# Altium schematic symbol library Schlib1.SchLib: 18 symbols
Pins are listed as number, name and electrical type; pins without a type are passive.

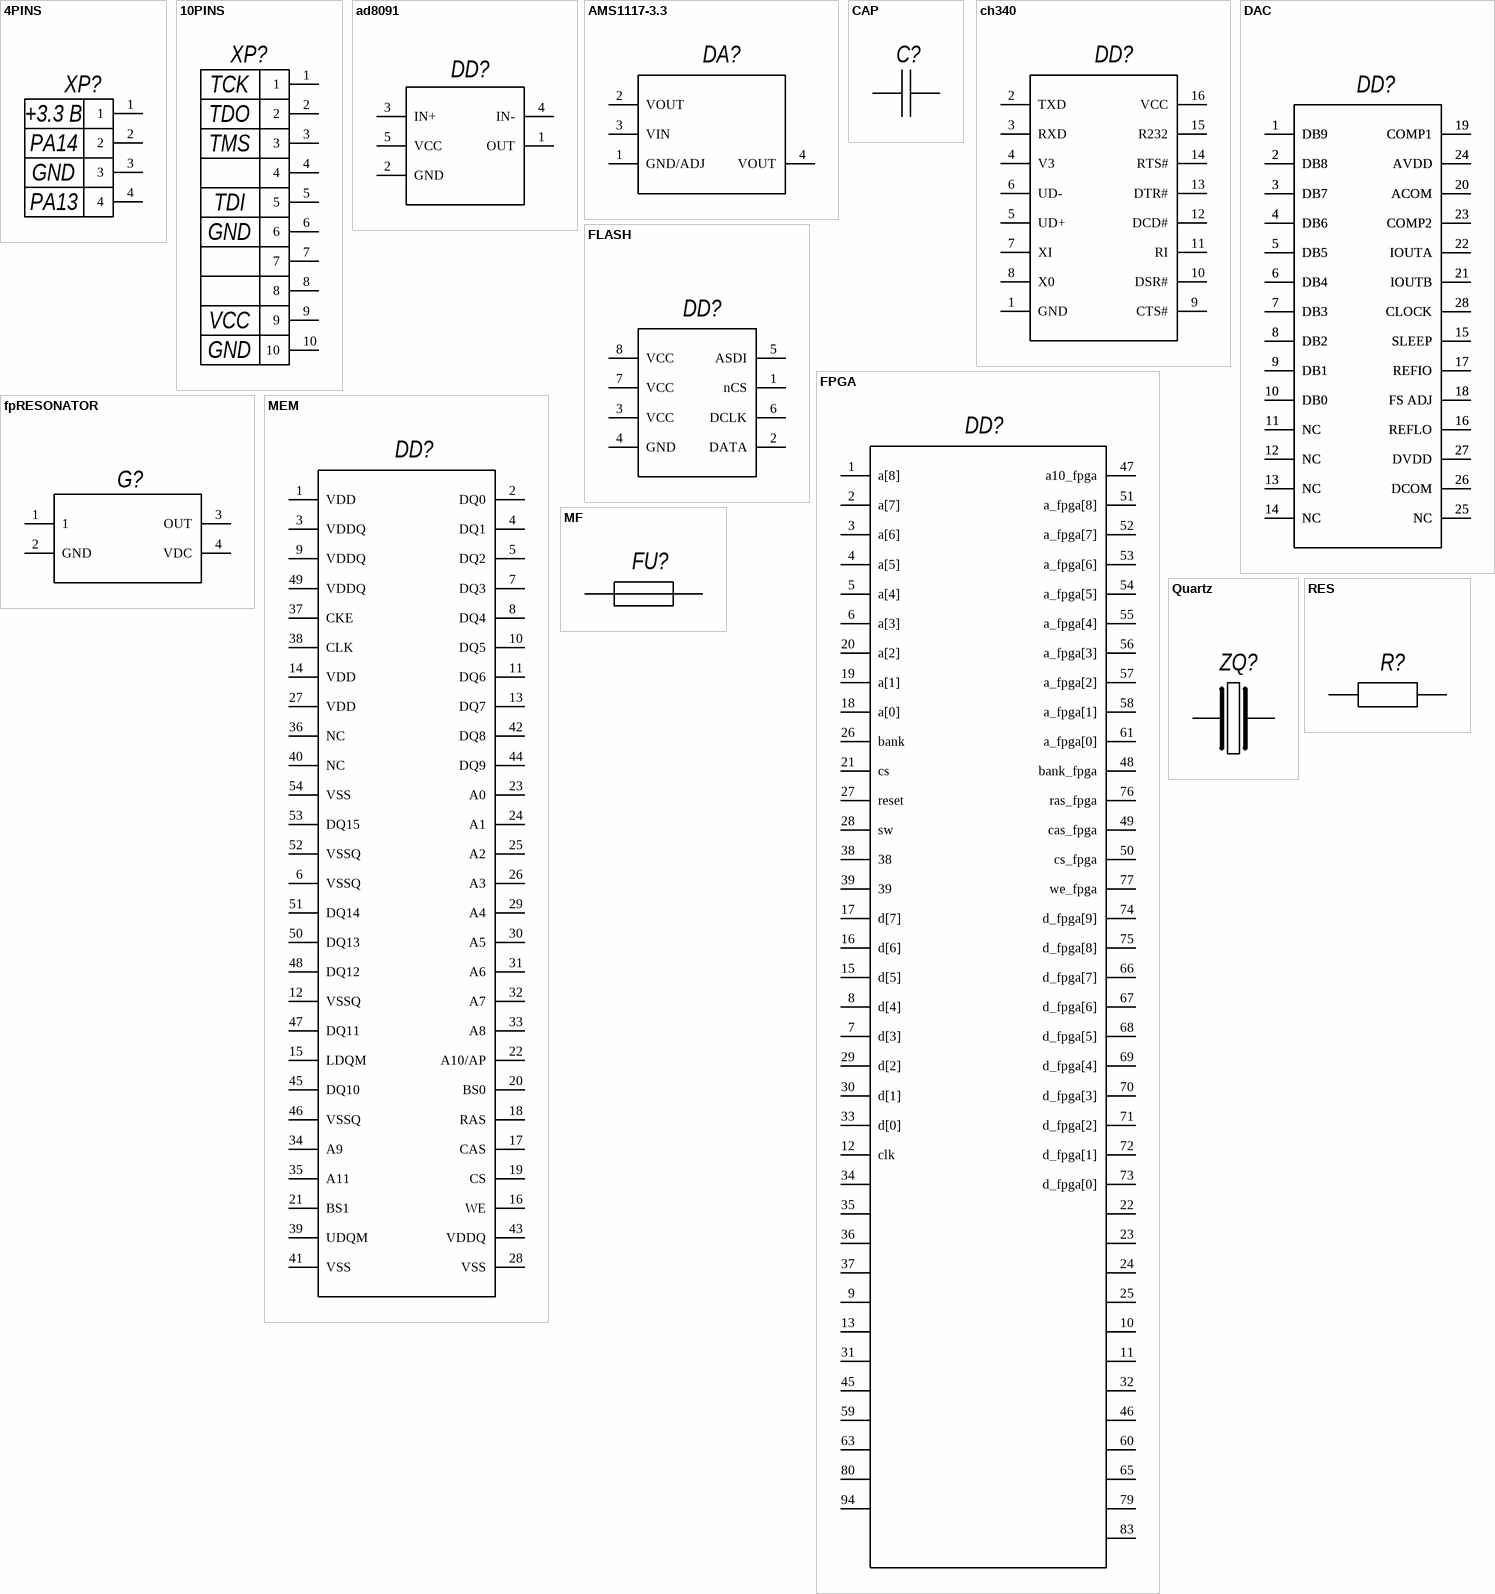
[diagram p0: symbols 4PINS to RES]

## 4PINS
designator XP?, comment Обозначение при заказе  (value not drawn)
Описание свойств компонента; Model: PLS-4 (DS-1021-1x4); Component: Вилка штыревая 4PIN; Link: https://www.chipdip.ru/product/pls-4; ComponentLink1Description: New link; ComponentLink1URL: https://www.chipdip.ru/product/pls-4
footprint 4PIN
pins: 1 "Информационный вход Х6", 2 "Информационный вход Х6", 3 "Информационный вход Х6", 4 "Информационный вход Х6"
text: +3.3 В; PA14; GND; PA13

## 10PINS
designator XP?, comment Обозначение при заказе  (value not drawn)
Описание свойств компонента; Model: PLD-10 (DS1021-2x5); Component: Вилка штыревая 10PIN; Link: https://www.chipdip.ru/product/pld-10; ComponentLink1Description: New link; ComponentLink1URL: https://www.chipdip.ru/product/pld-10
footprint PINS
pins: 1 "Информационный вход Х6", 2 "Информационный вход Х6", 3 "Информационный вход Х6", 4 "Информационный вход Х6", 5 "Информационный вход Х6", 6 "Информационный вход Х6", 7 "Информационный вход Х6", 8 "Информационный вход Х6", 9 "Информационный вход Х6", 10 "Информационный вход Х6"
text: TCK; TDO; TMS; TDI; GND; VCC

## ad8091
designator DD?, comment AD8091  (value not drawn)
SOT-23-5
footprint SOT95P245X110-5N (SOT23, 5-Leads, Body 2,90x2,45mm, Pitch 0,95mm, IPC Medium Density)
pins: 1 OUT, 2 GND, 3 IN+, 4 IN-, 5 VCC

## AMS1117-3.3
designator DA?, comment Обозначение при заказе  (value not drawn)
Описание свойств компонента; Model: AMS1117-3.3; Component: Стабилизатор; Link: https://www.chipdip.ru/product/ams1117-3.3; ComponentLink1Description: New link; ComponentLink1URL: https://www.chipdip.ru/product/ams1117-3.3
footprint AMS1117-3.3 GENERATED (SOT223, 4-Leads, Body 6,50x7,00mm (avg), Pitch 2,29mm, IPC Medium Density)
pins: 1 GND/ADJ "Информационный вход Х6", 2 VOUT "Информационный вход Х6", 3 VIN "Информационный вход Х6", 4 VOUT "Информационный вход Х6"

## CAP
designator C?, comment Обозначение при заказе  (value not drawn)
Описание свойств компонента; Component: Capacitor; Model: ?; Link: ?
footprint CAP 0603_1608 (Chip Capacitor, 2-Leads, Body 1.60x0.80mm, IPC Medium Density)
pins: 1 "Информационный вход Х6", 2 "Информационный вход Х6"

## ch340
designator DD?, comment Обозначение при заказе  (value not drawn)
Описание свойств компонента; Component: UART INTERFACE; Model: CH340G; Link: https://cdn.sparkfun.com/datasheets/Dev/Arduino/Other/CH340DS1.PDF; ComponentLink1Description: New link; ComponentLink1URL: https://cdn.sparkfun.com/datasheets/Dev/Arduino/Other/CH340DS1.PDF
footprint CH340G GENERATED
pins: 1 GND "Информационный вход Х6", 2 TXD "Информационный вход Х6", 3 RXD "Информационный вход Х6", 4 V3 "Информационный вход Х6", 5 UD+ "Информационный вход Х6", 6 UD- "Информационный вход Х6", 7 XI "Информационный вход Х6", 8 X0 "Информационный вход Х6", 9 CTS# "Информационный вход Х6", 10 DSR# "Информационный вход Х6", 11 RI "Информационный вход Х6", 12 DCD# "Информационный вход Х6", 13 DTR# "Информационный вход Х6", 14 RTS# "Информационный вход Х6", 15 R232 "Информационный вход Х6", 16 VCC "Информационный вход Х6"

## DAC
designator DD?, comment Обозначение при заказе  (value not drawn)
Описание свойств компонента; Component: DAC; Model: AD9760ARUZ50; Link: https://www.chipdip.ru/product/ad9760aruz50; ComponentLink1Description: New link; ComponentLink1URL: https://www.chipdip.ru/product/ad9760aruz50
footprint DAC (TSOP, 28-Leads, Body 9,70x4,40mm, Pitch 0,65mm, IPC Medium Density)
pins: 1 DB9, 1 DB9, 2 DB8, 2 DB8, 3 DB7, 3 DB7, 4 DB6, 4 DB6, 5 DB5, 5 DB5, 6 DB4, 6 DB4, 7 DB3, 7 DB3, 8 DB2, 8 DB2, 9 DB1, 9 DB1, 10 DB0, 10 DB0, 11 NC, 11 NC, 12 NC, 12 NC, 13 NC, 13 NC, 14 NC, 14 NC, 15 SLEEP, 15 SLEEP, 16 REFLO, 16 REFLO, 17 REFIO, 17 REFIO, 18 FS ADJ, 18 FS ADJ, 19 COMP1, 19 COMP1, 20 ACOM, 20 ACOM, 21 IOUTB, 21 IOUTB, 22 IOUTA, 22 IOUTA, 23 COMP2, 23 COMP2, 24 AVDD, 24 AVDD, 25 NC, 25 NC, 26 DCOM, 26 DCOM, 27 DVDD, 27 DVDD, 28 CLOCK, 28 CLOCK

## FLASH
designator DD?, comment Обозначение при заказе  (value not drawn)
Описание свойств компонента; Component: FLASH Memory; Model: EPCS16SI8N; Link: https://www.chipdip.ru/product/epcs16si8n; ComponentLink1Description: New link; ComponentLink1URL: https://www.chipdip.ru/product/epcs16si8n
footprint FLASH (SOIC, 8-Leads, Body 4,90x3,90mm, Pitch 1,27mm, IPC Medium Density)
pins: 1 nCS, 2 DATA, 3 VCC, 4 GND, 5 ASDI, 6 DCLK, 7 VCC, 8 VCC

## FPGA
designator DD?, comment Обозначение при заказе  (value not drawn)
Описание свойств компонента; Component: FPGA; Model: Altera II EPM240T100C3; Link: https://eu.mouser.com/ProductDetail/Intel-Altera/EPM240T100C3?qs=jblrfmjbeiFZviQiVyzREw%3D%3D; ComponentLink1Description: New link; ComponentLink1URL: https://eu.mouser.com/ProductDetail/Intel-Altera/EPM240T100C3?qs=jblrfmjbeiFZviQiVyzREw%3D%3D
footprint QFP50P1600X1600X120-100N
pins: 1 a[8], 2 a[7], 3 a[6], 4 a[5], 5 a[4], 6 a[3], 7 d[3], 8 d[4], 9 78, 10 79, 11 80, 12 clk, 13 81, 15 d[5], 16 d[6], 17 d[7], 18 a[0], 19 a[1], 20 a[2], 21 cs, 22 76 "Информационный вход Х6", 23 77 "Информационный вход Х6", 24 78 "Информационный вход Х6", 25 79 "Информационный вход Х6", 26 bank, 27 reset, 28 sw, 29 d[2], 30 d[1], 31 83, 32 84, 33 d[0], 34, 35, 36, 37, 38, 39, 45 85, 46 86, 47 a10_fpga, 48 bank_fpga, 49 cas_fpga, 50 cs_fpga, 51 a_fpga[8], 52 a_fpga[7], 53 a_fpga[6], 54 a_fpga[5], 55 a_fpga[4], 56 a_fpga[3], 57 a_fpga[2], 58 a_fpga[1], 59 87, 60 88, 61 a_fpga[0], 63 89, 65 90, 66 d_fpga[7], 67 d_fpga[6], 68 d_fpga[5], 69 d_fpga[4], 70 d_fpga[3], 71 d_fpga[2], 72 d_fpga[1], 73 d_fpga[0], 74 d_fpga[9], 75 d_fpga[8], 76 ras_fpga, 77 we_fpga, 79 80, 80 78, 83 81, 94 79

## fpRESONATOR
designator G?, comment Обозначение при заказе  (value not drawn)
Описание свойств компонента; Component: FPGA Quartz Generator; Model: https://www.chipdip.ru/product0/8004154941; Link: https://www.chipdip.ru/product0/8004154941
footprint CAC-508P730X490-4N (Chip Array, Concave, 4-Leads, Pitch 5,08mm,  Body 7,30x4,90mm,  IPC Medium Density)
pins: 1, 2 GND, 3 OUT, 4 VDC

## MEM
designator DD?, comment Обозначение при заказе  (value not drawn)
Описание свойств компонента; Component: Memory; Model: W9812G6KH-6/TRAY; ComponentLink1Description: Link; ComponentLink1URL: https://www.chipdip.ru/product/w9812g6kh-6-tray; Link: https://www.chipdip.ru/product/w9812g6kh-6-tray
footprint SOP127P600-8N
pins: 1 VDD "Информационный вход Х6", 2 DQ0 "Информационный вход Х6", 3 VDDQ "Информационный вход Х6", 4 DQ1 "Информационный вход Х6", 5 DQ2 "Информационный вход Х6", 6 VSSQ "Информационный вход Х6", 7 DQ3 "Информационный вход Х6", 8 DQ4 "Информационный вход Х6", 9 VDDQ "Информационный вход Х6", 10 DQ5 "Информационный вход Х6", 11 DQ6 "Информационный вход Х6", 12 VSSQ "Информационный вход Х6", 13 DQ7 "Информационный вход Х6", 14 VDD "Информационный вход Х6", 15 LDQM "Информационный вход Х6", 16 WE "Информационный вход Х6", 17 CAS "Информационный вход Х6", 18 RAS "Информационный вход Х6", 19 CS "Информационный вход Х6", 20 BS0 "Информационный вход Х6", 21 BS1 "Информационный вход Х6", 22 A10/AP "Информационный вход Х6", 23 A0 "Информационный вход Х6", 24 A1 "Информационный вход Х6", 25 A2 "Информационный вход Х6", 26 A3 "Информационный вход Х6", 27 VDD "Информационный вход Х6", 28 VSS "Информационный вход Х6", 29 A4 "Информационный вход Х6", 30 A5 "Информационный вход Х6", 31 A6 "Информационный вход Х6", 32 A7 "Информационный вход Х6", 33 A8 "Информационный вход Х6", 34 A9 "Информационный вход Х6", 35 A11 "Информационный вход Х6", 36 NC "Информационный вход Х6", 37 CKE "Информационный вход Х6", 38 CLK "Информационный вход Х6", 39 UDQM "Информационный вход Х6", 40 NC "Информационный вход Х6", 41 VSS "Информационный вход Х6", 42 DQ8 "Информационный вход Х6", 43 VDDQ "Информационный вход Х6", 44 DQ9 "Информационный вход Х6", 45 DQ10 "Информационный вход Х6", 46 VSSQ "Информационный вход Х6", 47 DQ11 "Информационный вход Х6", 48 DQ12 "Информационный вход Х6", 49 VDDQ "Информационный вход Х6", 50 DQ13 "Информационный вход Х6", 51 DQ14 "Информационный вход Х6", 52 VSSQ "Информационный вход Х6", 53 DQ15 "Информационный вход Х6", 54 VSS "Информационный вход Х6"

## MF
designator FU?, comment Обозначение при заказе  (value not drawn)
Описание свойств компонента; Component: Предохранитель; Model: ?; Link: ?
footprint FUSE
pins: 1 "Информационный вход Х6", 2 "Информационный вход Х6"

## Quartz
designator ZQ?, comment Обозначение при заказе  (value not drawn)
Описание свойств компонента; Component: Quartz resonator; Model: ?; Link: ?
footprint ECN-7U12000MAB143ZA3 (Resonator)
pins: 1 "Информационный вход Х6", 2 "Информационный вход Х6"

## RES
designator R?, comment Обозначение при заказе  (value not drawn)
Описание свойств компонента; Component: Resistor; Model: ?; Link: ?
footprint R_0805_T0.4 (Чип-резисторы постоянные непроволочные общего применения Р1-8В)
pins: 1 "Информационный вход Х6", 2 "Информационный вход Х6"

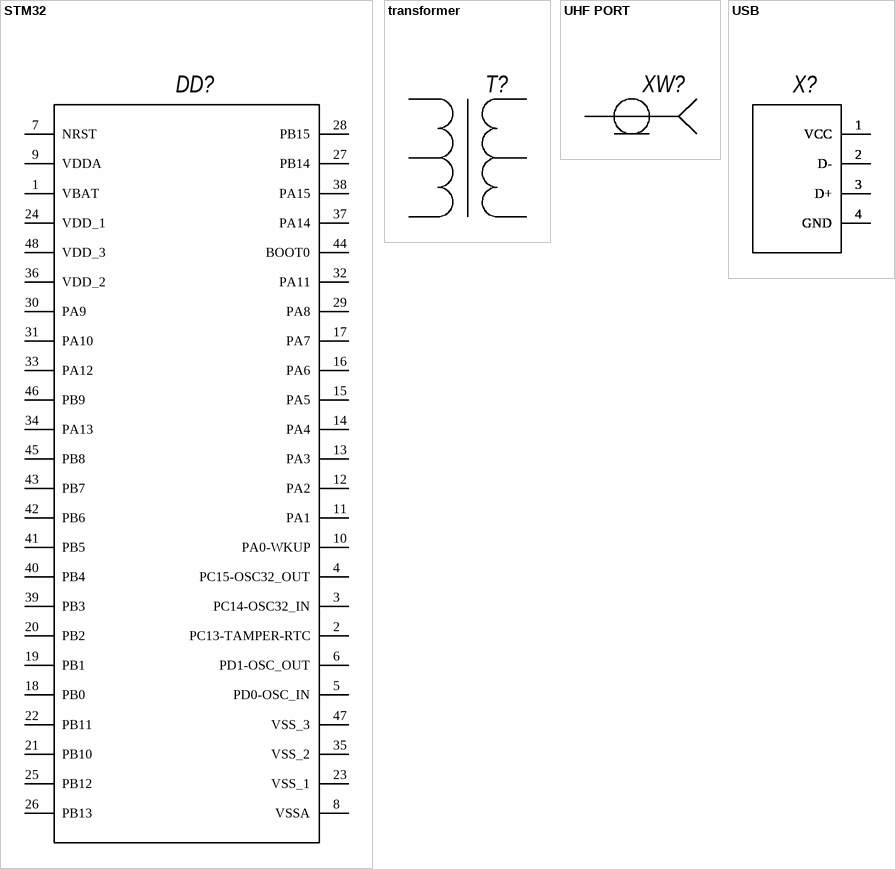
[diagram p1: symbols STM32 to USB]

## STM32
designator DD?, comment Обозначение при заказе  (value not drawn)
Описание свойств компонента; Component: Controller; Model: STM32F446RET6; ComponentLink1Description: Link; ComponentLink1URL: https://www.chipdip.ru/product/stm32f446ret6; Link: https://www.chipdip.ru/product/stm32f446ret6
footprint LQFP-48 (TSQFP, 48-Leads, Body 9,0x9,0mm (max), Pitch 0,50mm, IPC Medium Density)
pins: 1 VBAT, 2 PC13-TAMPER-RTC, 3 PC14-OSC32_IN, 4 PC15-OSC32_OUT, 5 PD0-OSC_IN, 6 PD1-OSC_OUT, 7 NRST, 8 VSSA, 9 VDDA, 10 PA0-WKUP, 11 PA1, 12 PA2, 13 PA3, 14 PA4, 15 PA5, 16 PA6, 17 PA7, 18 PB0, 19 PB1, 20 PB2, 21 PB10, 22 PB11, 23 VSS_1, 24 VDD_1, 25 PB12, 26 PB13, 27 PB14, 28 PB15, 29 PA8, 30 PA9, 31 PA10, 32 PA11, 33 PA12, 34 PA13, 35 VSS_2, 36 VDD_2, 37 PA14, 38 PA15, 39 PB3, 40 PB4, 41 PB5, 42 PB6, 43 PB7, 44 BOOT0, 45 PB8, 46 PB9, 47 VSS_3, 48 VDD_3

## transformer
designator T?, comment Обозначение при заказе  (value not drawn)
Описание свойств компонента; Component: Transformer; Model: ALT3232M-151-T001; Link: https://www.chipdip.ru/product/alt3232m-151-t001-2; ComponentLink1Description: New link; ComponentLink1URL: https://www.chipdip.ru/product/alt3232m-151-t001-2
footprint transformer
pins: 1, 2, 4, 5, 6, 7

## UHF PORT
designator XW?, comment Обозначение при заказе  (value not drawn)
Описание свойств компонента; Component: СВЧ разъем; Model: KLS1-SMA002-B; ComponentLink1Description: New link; ComponentLink1URL: https://www.chipdip.ru/product/kls1-sma002-b-sma-jr; Link: https://www.chipdip.ru/product/kls1-sma002-b-sma-jr
footprint UHF
pins: 1

## USB
designator X?  (value not drawn)
Model: Unknown; Component: USB; ComponentLink1Description: Link; ComponentLink1URL: No link; Link: No link
footprint USB
pins: 1 VCC, 1 VCC, 1 VCC, 1 VCC, 1 VCC, 1 VCC, 1 VCC, 1 VCC, 2 D-, 2 D-, 2 D-, 2 D-, 2 D-, 2 D-, 2 D-, 2 D-, 3 D+, 3 D+, 3 D+, 3 D+, 3 D+, 3 D+, 3 D+, 3 D+, 4 GND, 4 GND, 4 GND, 4 GND, 4 GND, 4 GND, 4 GND, 4 GND